# Altium footprint library RayPCB20210502.PcbLib: 218 footprints (part 1 of 14)
Each footprint in its own frame and in the unit in brackets; x right, y up, seen from the top. Pads: shape width x height; smd on the part's side, far side on the other; paste and mask are expansions set on the pad; w line width, h text height; cw(c..) or ccw(c..) is an arc to the next point about the centre after c.
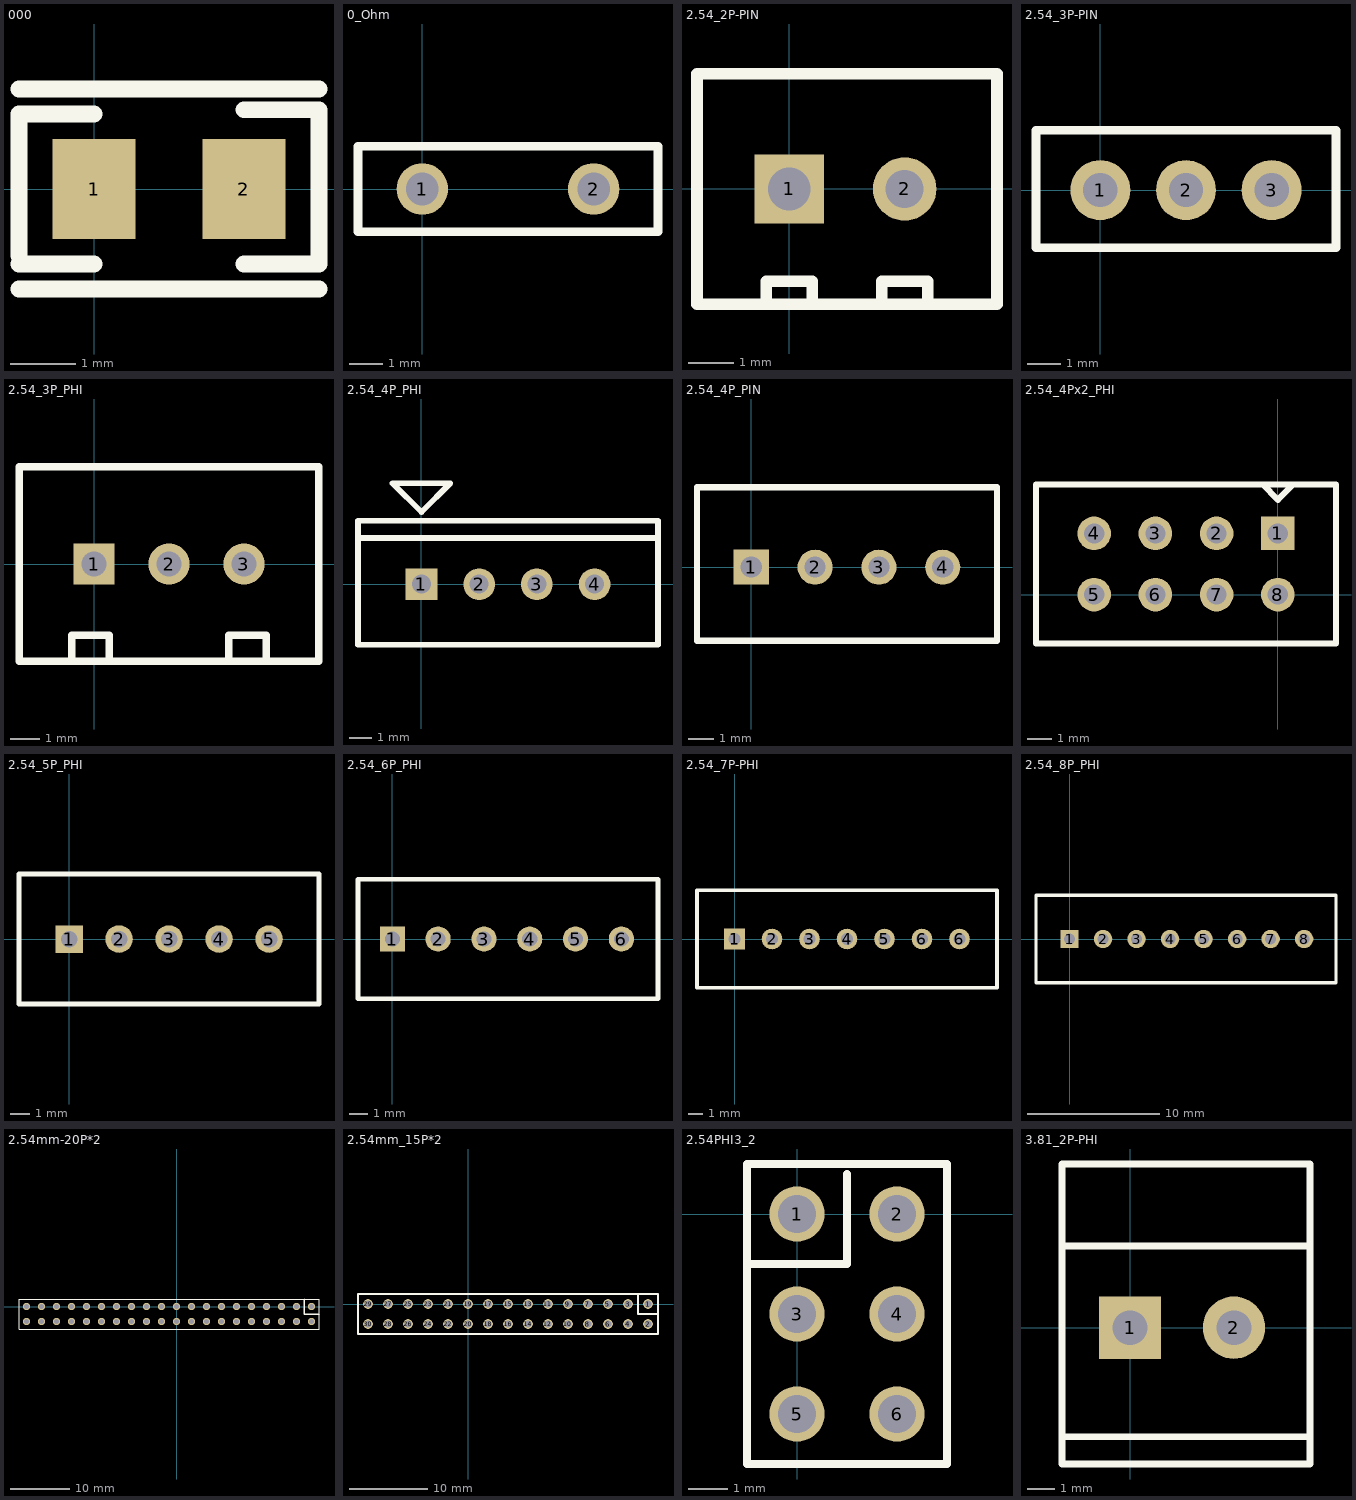
[diagram p0: the footprints below, top view; thin cyan lines are the x and y axes]

## 000 [mil]
pads (2):
  rect 50x60 smd: 1(0,0) 2(90,0)
Top Overlay:
  lines w10: -45,-60 135,-60 ; -45,-45 0,-45 ; -45,-40 -45,45 0,45 ; -45,60 135,60 ; 90,-45 135,-45 135,47.5 90,47.5

## 0_Ohm [mil]
pads (2):
  round 60 hole 38: 1(0,0) 2(200,0)
Top Overlay:
  lines w10: -75,-50 275,-50 275,50 -75,50 -75,-50

## 2.54_2P-PIN [mil]
pads (2):
  rect 60x60 hole 37: 1(0,0)
  round 55 hole 33: 2(100,0)
Top Overlay:
  lines w10: -20,-100 -20,-80 20,-80 20,-100 ; 80,-100 80,-80 120,-80 120,-100 ; -80,-100 -80,100 180,100 180,-100 -80,-100

## 2.54_3P-PIN [mil]
pads (3):
  round 70 hole 40: 1(0,0) 2(100,0) 3(200,0)
Top Overlay:
  lines w10: -75,-67.5 -75,70 275,70 275,-67.5 -75,-67.5

## 2.54_3P_PHI [mil]
pads (3):
  rect 55x55 hole 33: 1(0,0)
  round 55 hole 33: 2(100,0) 3(200,0)
Top Overlay:
  lines w10: -30,-125 -30,-95 20,-95 20,-125 ; 180,-125 180,-95 230,-95 230,-125 ; -100,-130 -100,130 300,130 300,-130 -100,-130

## 2.54_4P_PHI [mil]
pads (4):
  rect 55x55 hole 33: 1(0,0)
  round 55 hole 33: 2(100,0) 3(200,0) 4(300,0)
Top Overlay:
  lines w10: -110,80 410,80 ; -110,-105 -110,110 410,110 410,-105 -110,-105 ; -50,175 50,175 0,125 -50,175

## 2.54_4P_PIN [mil]
pads (4):
  rect 55x55 hole 33: 1(0,0)
  round 55 hole 33: 2(100,0) 3(200,0) 4(300,0)
Top Overlay:
  lines w10: -85,-115 -85,125 385,125 385,-115 -85,-115

## 2.54_4Px2_PHI [mil]
pads (8):
  rect 55x55 hole 33: 1(0,100)
  round 55 hole 33: 2(-100,100) 3(-200,100) 4(-300,100) 5(-300,0) 6(-200,0) 7(-100,0) 8(0,0)
Top Overlay:
  lines w10: -25,180 0,155 25,180 ; -395,-80 95,-80 95,180 -395,180 -395,-80

## 2.54_5P_PHI [mil]
pads (5):
  rect 55x55 hole 33: 1(0,0)
  round 55 hole 33: 2(100,0) 3(200,0) 4(300,0) 5(400,0)
Top Overlay:
  lines w10: -100,-130 500,-130 500,130 -100,130 -100,-130

## 2.54_6P_PHI [mil]
pads (6):
  rect 55x55 hole 33: 1(0,0)
  round 55 hole 33: 2(100,0) 3(200,0) 4(300,0) 5(400,0) 6(500,0)
Top Overlay:
  lines w10: -75,-130 -75,130 580,130 580,-130 -75,-130

## 2.54_7P-PHI [mil]
pads (7):
  rect 55x55 hole 33: 1(0,0)
  round 55 hole 33: 2(100,0) 3(200,0) 4(300,0) 5(400,0) 6(500,0) 6(600,0)
Top Overlay:
  lines w10: -100,-130 -100,130 700,130 700,-130 -100,-130

## 2.54_8P_PHI [mil]
pads (8):
  rect 55x55 hole 33: 1(0,0)
  round 55 hole 33: 2(100,0) 3(200,0) 4(300,0) 5(400,0) 6(500,0) 7(600,0) 8(700,0)
Top Overlay:
  lines w10: -100,-130 795,-130 795,130 -100,130 -100,-130

## 2.54mm-20P*2 [mil]
pads (40):
  round 48 hole 36: 1(900,0) 2(900,-100) 3(800,0) 4(800,-100) 5(700,0) 6(700,-100) 7(600,0) 8(600,-100) 9(500,0) 10(500,-100) 11(400,0) 12(400,-100) 13(300,0) 14(300,-100) 15(200,0) 16(200,-100) 17(100,0) 18(100,-100) 19(0,0) 20(0,-100) 21(-100,0) 22(-100,-100) 23(-200,0) 24(-200,-100) 25(-300,0) 26(-300,-100) 27(-400,0) 28(-400,-100) 29(-500,0) 30(-500,-100) 31(-600,0) 32(-600,-100) 33(-700,0) 34(-700,-100) 35(-800,0) 36(-800,-100) 37(-900,0) 38(-900,-100) 39(-1000,0) 40(-1000,-100)
Top Overlay:
  lines w7.87: -1050,-150 875,-150 950,-150 950,50 875,50 -1050,50 -1050,-150
  lines w10: 850,50 850,-50 950,-50

## 2.54mm_15P*2 [mil]
pads (30):
  round 48 hole 36: 1(900,0) 2(900,-100) 3(800,0) 4(800,-100) 5(700,0) 6(700,-100) 7(600,0) 8(600,-100) 9(500,0) 10(500,-100) 11(400,0) 12(400,-100) 13(300,0) 14(300,-100) 15(200,0) 16(200,-100) 17(100,0) 18(100,-100) 19(0,0) 20(0,-100) 21(-100,0) 22(-100,-100) 23(-200,0) 24(-200,-100) 25(-300,0) 26(-300,-100) 27(-400,0) 28(-400,-100) 29(-500,0) 30(-500,-100)
Top Overlay:
  lines w7.87: -550,-150 875,-150 950,-150 950,50 875,50 -550,50 -550,-150
  lines w10: 850,50 850,-50 950,-50

## 2.54PHI3_2 [mil]
pads (6):
  round 55 hole 38: 1(0,0) 2(100,0) 3(0,-100) 4(100,-100) 5(0,-200) 6(100,-200)
Top Overlay:
  lines w8: -50,-50 50,-50 50,40 ; -50,-250 150,-250 150,50 -50,50 -50,-250

## 3.81_2P-PHI [mil]
pads (2):
  rect 90x90 hole 50: 1(0,0)
  round 90 hole 50: 2(150,0)
Top Overlay:
  lines w10: -98.43,-157.48 260,-157.48 ; -98.43,118.11 260,118.11 ; -98.43,-196.85 -98.43,236.22 260,236.22 260,-196.85 -98.43,-196.85